# Altium schematic symbol library Connectors Rectangular 2.54 WF.SchLib: 4 symbols
Pins are listed as number, name and electrical type; pins without a type are passive.

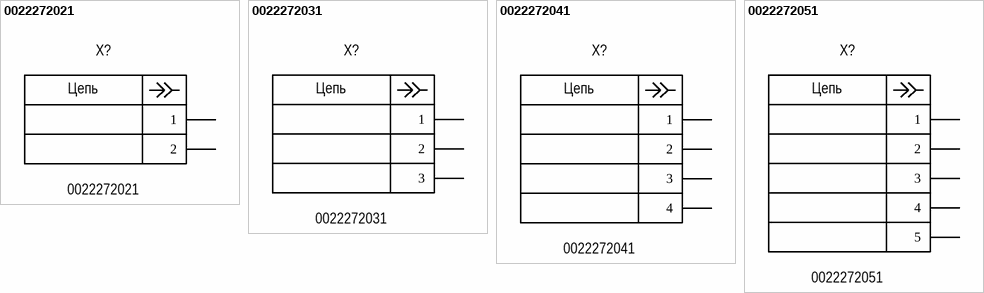
[diagram p0: symbols 0022272021 to 0022272051]

## 0022272021
designator X?
Connector Rectangular 2.54 M 2P Board WF; Manufacturer: Molex; Group: Mechanical; Pitch: 2.54mm; Positions: 2; Rows: 1; Current rating: 3.0A; Voltage rating: 250V; Placing: Vertical; Shrouding: 1 Wall; Connector type: Header; Series name: Micro-Fit; Dimension: 5.08mm x 5.90mm; Operating temperature: -25°C +85°C; Mounting type: Through hole; Package: Connector Rectangular 2.54 M 2P Board WF; Part name: 0022272021; Height: 11.40mm; Insulation color: White; Component: Connector Rectangular; Contact type: Male pin; Fastening type: Friction lock; Series: 2510; Connector style: Board; System: Connector
footprint WF-2.54-2
pins: 1, 2
text: Цепь

## 0022272031
designator X?
Connector Rectangular 2.54 M 3P Board WF; Manufacturer: Molex; Group: Mechanical; Pitch: 2.54mm; Positions: 3; Rows: 1; Current rating: 3.0A; Voltage rating: 250V; Placing: Vertical; Shrouding: 1 Wall; Connector type: Header; Series name: Micro-Fit; Dimension: 7.62mm x 5.90mm; Operating temperature: -25°C +85°C; Mounting type: Through hole; Package: Connector Rectangular 2.54 M 3P Board WF; Part name: 0022272031; Height: 11.40mm; Insulation color: White; Component: Connector Rectangular; Contact type: Male pin; Fastening type: Friction lock; Series: 2510; Connector style: Board; System: Connector
footprint WF-2.54-3
pins: 1, 2, 3
text: Цепь

## 0022272041
designator X?
Connector Rectangular 2.54 M 4P Board WF; Manufacturer: Molex; Group: Mechanical; Pitch: 2.54mm; Positions: 4; Rows: 1; Current rating: 3.0A; Voltage rating: 250V; Placing: Vertical; Shrouding: 1 Wall; Connector type: Header; Series name: Micro-Fit; Dimension: 10.16mm x 5.90mm; Operating temperature: -25°C +85°C; Mounting type: Through hole; Package: Connector Rectangular 2.54 M 4P Board WF; Part name: 0022272041; Height: 11.40mm; Insulation color: White; Component: Connector Rectangular; Contact type: Male pin; Fastening type: Friction lock; Series: 2510; Connector style: Board; System: Connector
footprint WF-2.54-4
pins: 1, 2, 3, 4
text: Цепь

## 0022272051
designator X?
Connector Rectangular 2.54 M 5P Board WF; Manufacturer: Molex; Group: Mechanical; Pitch: 2.54mm; Positions: 5; Rows: 1; Current rating: 3.0A; Voltage rating: 250V; Placing: Vertical; Shrouding: 1 Wall; Connector type: Header; Series name: Micro-Fit; Dimension: 12.70mm x 5.90mm; Operating temperature: -25°C +85°C; Mounting type: Through hole; Package: Connector Rectangular 2.54 M 5P Board WF; Part name: 0022272051; Height: 11.40mm; Insulation color: White; Component: Connector Rectangular; Contact type: Male pin; Fastening type: Friction lock; Series: 2510; Connector style: Board; System: Connector
footprint WF-2.54-5
pins: 1, 2, 3, 4, 5
text: Цепь